# Altium schematic symbol library pira-smart-schlib.SchLib: 10 symbols
Pins are listed as number, name and electrical type; pins without a type are passive.

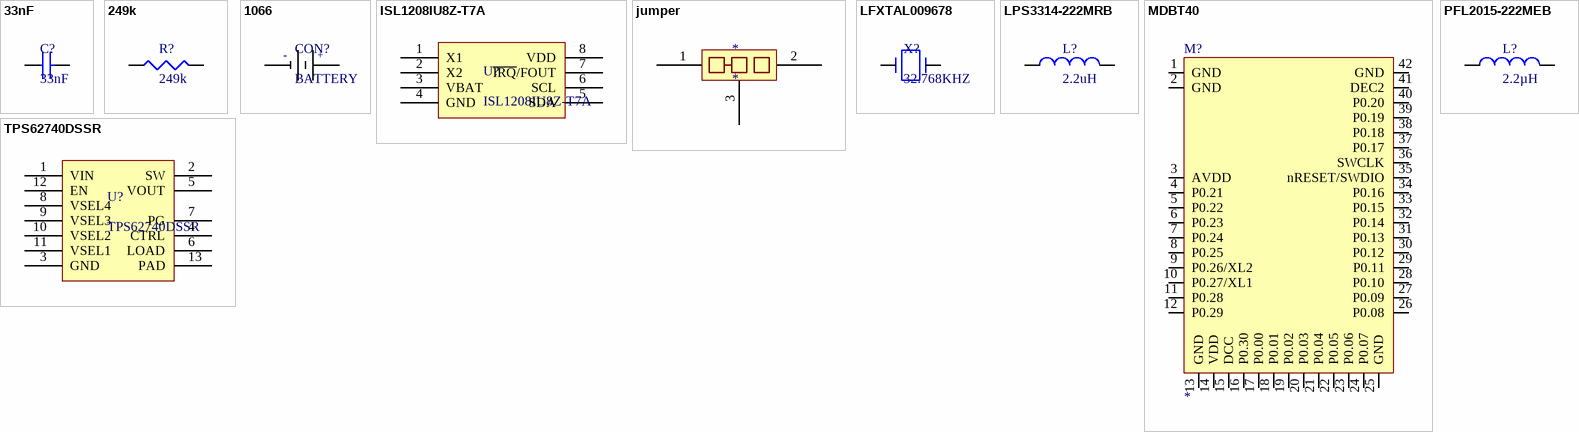
[diagram p0: symbols 33nF to TPS62740DSSR]

## 33nF
designator C?
MULTICOMP   MC0603B333K250CT   Multilayer Ceramic Capacitor, MC Series, 0.033 F,  10%, X7R, 25 V, 0603 [1608 Metric]; SVHC: To Be Advised; Voltage Rating: 25V; Capacitor Terminals: SMD; Supplier 1: Farnell; Manufacturer: Multicomp; Manufacturer Part Number: MC0603B333K250CT; Stock 1: 9606; Pricing 1: 10=0.0225, 100=0.0163, 500=0.0101, 1000=0.0083, 2000=0.007 (EUR); Capacitance: 33nF; Capacitance Tolerance: ± 10%; Dielectric Characteristic: X7R; Capacitor Case Style: 0603 [1608 Metric]; Operating Temperature Min: -55°C; Operating Temperature Max: 125°C; Packaging: Full Reel; MSL: (Not Available); ComponentLink1URL: https://datasheet.ciiva.com/22675/1901289-22675775.pdf; ComponentLink1Description: https://datasheet.ciiva.com/22675/1901289-22675775.pdf
footprint CAP0603
pins: 1, 2

## 249k
designator R?
MULTICOMP         MCWR06X2493FTL             SMD Chip Resistor, Thick Film, 249 kohm, 50 V, 0603 [1608 Metric], 100 mW,  1%, MCWR Series; Voltage Rating: 50V; Power Rating: 100mW; Temperature Coefficient: ± 100ppm/°C; SVHC: No SVHC (17-Dec-2015); Supplier 1: Farnell; Manufacturer: Multicomp; Manufacturer Part Number: MCWR06X2493FTL; Stock 1: 5347; Pricing 1: 10=0.0035, 100=0.0021, 500=0.0015, 1000=0.0012, 2500=0.001 (EUR); Resistance: 249kohm; Resistor Case Style: 0603 [1608 Metric]; Resistance Tolerance: ± 1%; Product Range: MCWR Series; Packaging: Cut Tape; Resistor Element Type: Thick Film; Automotive Qualification Standard: -; MSL: -; ComponentLink1URL: http://www.farnell.com/datasheets/1849611.pdf; ComponentLink1Description: http://www.farnell.com/datasheets/1849611.pdf; Supplier Part Number 1: 2447306
footprint RES0603
pins: 1, 2

## 1066
designator CON?, comment BATTERY
HOLDER BATT COIN COMPACT 20MM; Manufacturer: Keystone Electronics; Manufacturer Part Number: 1066; Body Material: Nylon,Glass; Number of Batteries: 1; Approvals: UL; Supplier 1: Farnell; Stock 1: 17073; Pricing 1: 1=1, 50=0.97, 100=0.947, 500=0.927, 1000=0.847 (EUR); Mount: Through Hole,Holder,PCB; Contact Plating: Tin; Contact Material: Bronze,Copper,Tin; Material: Bronze; Min Operating Temperature: -50°C; Max Operating Temperature: 145°C; Packaging: Bulk; Number of Cells: 1; Package Quantity: 1; Termination: PC Pin; Diameter: 20mm; REACH SVHC: No SVHC; Lead Free: Lead Free; ComponentLink1URL: https://datasheet.ciiva.com/3/1066-3994.pdf; ComponentLink1Description: https://datasheet.ciiva.com/3/1066-3994.pdf; ComponentLink2URL: https://datasheet.ciiva.com/1391/1718229-1391198.pdf; ComponentLink2Description: https://datasheet.ciiva.com/1391/1718229-1391198.pdf; ComponentLink3URL: https://datasheet.ciiva.com/12342/m60p3-4068-12342995.pdf; ComponentLink3Description: https://datasheet.ciiva.com/12342/m60p3-4068-12342995.pdf; ComponentLink4URL: https://datasheet.ciiva.com/18403/70181436-18403177.pdf; ComponentLink4Description: https://datasheet.ciiva.com/18403/70181436-18403177.pdf; ComponentLink5URL: https://datasheet.ciiva.com/22643/1814063-22643020.pdf; ComponentLink5Description: https://datasheet.ciiva.com/22643/1814063-22643020.pdf; ComponentLink6URL: https://datasheet.ciiva.com/16322/m60-2p3-16322780.pdf; ComponentLink6Description: https://datasheet.ciiva.com/16322/m60-2p3-16322780.pdf; Supplier Part Number 1: 2293258
footprint 1066_1066(Primary)
pins: NEG, POS
text: -; +

## ISL1208IU8Z-T7A
designator U?
IC RTC/CALENDAR I2C LP 8MSOP; Manufacturer: Intersil; Max Supply Voltage: 5.5V; Min Supply Voltage: 2.7V; Non-volatile Memory Size: 2B; Interface: I2C,Serial,2-Wire; Logic Function: Clock; Time Format: HH:MM:SS; Date Format: YY-MM-DD-dd; Supplier 1: Farnell; Manufacturer Part Number: ISL1208IU8Z-T7A; Stock 1: 321; Pricing 1: 1=2.63, 10=2.24, 25=2.12, 50=2.01, 100=1.89, 250=1.84, 500=1.65, 1000=1.37 (EUR); Mount: Surface Mount; Case/Package: MSOP; Number of Pins: 8; Min Operating Temperature: -40°C; Max Operating Temperature: 85°C; Packaging: Tape and Reel; Package Quantity: 250; Memory Size: 2B; Radiation Hardening: No; REACH SVHC: Unknown; Lead Free: Lead Free; ComponentLink1URL: https://datasheet.ciiva.com/16293/fn8085-16293145.pdf; ComponentLink1Description: https://datasheet.ciiva.com/16293/fn8085-16293145.pdf; ComponentLink2URL: https://datasheet.ciiva.com/8145/fn8085-8145071.pdf; ComponentLink2Description: https://datasheet.ciiva.com/8145/fn8085-8145071.pdf; ComponentLink3URL: https://datasheet.ciiva.com/6668/fn8085-6668119.pdf; ComponentLink3Description: https://datasheet.ciiva.com/6668/fn8085-6668119.pdf; ComponentLink4URL: https://datasheet.ciiva.com/6668/fn8085-6668117.pdf; ComponentLink4Description: https://datasheet.ciiva.com/6668/fn8085-6668117.pdf; ComponentLink5URL: https://datasheet.ciiva.com/6668/fn8085-6668118.pdf; ComponentLink5Description: https://datasheet.ciiva.com/6668/fn8085-6668118.pdf; Supplier Part Number 1: 2543322
footprint TSOP65P500X110-8N (TSOP, 8-Leads, Body 3.00x3.00mm, Pitch 0.65mm, IPC Medium Density)
pins: 1 X1 (oc), 2 X2 (oc), 3 VBAT (oc), 4 GND (oc), 5 SDA (oc), 6 SCL (oc), 7 ~{IRQ}/FOUT (oc), 8 VDD (oc)

## jumper
designator *
pins: 1 (oc), 2 (oc), 3 (oc)

## LFXTAL009678
designator X?, comment 32.768KHZ
CRYSTAL, 32.768KHZ, 12.5PF, SMD; Manufacturer: IQD; Manufacturer Part Number: LFXTAL009678; Frequency: 32.8kHz; Supplier 1: Farnell; Stock 1: 15609; Pricing 1: 5=0.283, 50=0.203, 250=0.169, 500=0.163, 1500=0.157, 3000=0.152, 15000=0.146 (EUR); Case/Package: 217; Number of Pins: 2; Min Operating Temperature: -40°C; Max Operating Temperature: 85°C; Load Capacitance: 12.5pF; REACH SVHC: No SVHC; ComponentLink1URL: https://datasheet.ciiva.com/46419/1852967-46419749.pdf; ComponentLink1Description: https://datasheet.ciiva.com/46419/1852967-46419749.pdf; Supplier Part Number 1: 2449398
footprint LFXTAL009678
pins: 1, 2

## LPS3314-222MRB
designator L?, comment 2.2uH
COILCRAFT   LPS3314-222MRB   INDUCTOR, SHLD, 2.2UH, 20%, 1.2A, SMD; Core Material: Ferrite; Saturation Current: 1.4A; DC Resistance (DCR): 100mR; Shielding: Shielded; Max DC Current: 1.5A; Self Resonant Frequency: 140MHz; Test Frequency: 100kHz; Supplier 1: Farnell; Manufacturer: Coilcraft; Manufacturer Part Number: LPS3314-222MRB; Stock 1: 608; Pricing 1: 1=0.898, 250=0.706, 500=0.555 (EUR); Weight: 0.001411oz; Min Operating Temperature: -40°C; Max Operating Temperature: 85°C; Inductance Tolerance: 20%; Packaging: Cut Tape; Inductance: 2.2uh; RMS Current (Irms): 1.2A; Termination: SMD/SMT; Tolerance: 20%; Package Quantity: 1; Length: 3mm; Height: 1.4mm; Width: 3mm; REACH SVHC: No SVHC; ComponentLink1URL: https://datasheet.ciiva.com/46438/1805322-46438527.pdf; ComponentLink1Description: https://datasheet.ciiva.com/46438/1805322-46438527.pdf; ComponentLink2URL: https://datasheet.ciiva.com/46384/1805322-46384794.pdf; ComponentLink2Description: https://datasheet.ciiva.com/46384/1805322-46384794.pdf; Supplier Part Number 1: 2408039
footprint LPS3314
pins: 1, 2

## MDBT40
designator M?
MDBT40
footprint PCB_MDBT40_10X18
pins: 1 GND, 2 GND, 3 AVDD, 4 P0.21, 5 P0.22, 6 P0.23, 7 P0.24, 8 P0.25, 9 P0.26/XL2, 10 P0.27/XL1, 11 P0.28, 12 P0.29, 13 GND, 14 VDD, 15 DCC, 16 P0.30, 17 P0.00, 18 P0.01, 19 P0.02, 20 P0.03, 21 P0.04, 22 P0.05, 23 P0.06, 24 P0.07, 25 GND, 26 P0.08, 27 P0.09, 28 P0.10, 29 P0.11, 30 P0.12, 31 P0.13, 32 P0.14, 33 P0.15, 34 P0.16, 35 nRESET/SWDIO, 36 SWCLK, 37 P0.17, 38 P0.18, 39 P0.19, 40 P0.20, 41 DEC2, 42 GND

## PFL2015-222MEB
designator L?, comment 2.2µH
Fixed Inductors PFL2015 Shld Power 2.2 uH 20 % 1 A; Manufacturer: Coilcraft; Manufacturer Part Number: PFL2015-222MEB; SVHC: To Be Advised; Product Range: Coilcraft - PFL2015 Series; Inductance Tolerance: ± 20%; DC Resistance Max: 0.21ohm; DC Current Rating: 1A; Self Resonant Frequency: 100MHz; Inductor Case Style: SMD; Core Material: (Not Applicable); Supplier 1: Farnell; Stock 1: 3300; Pricing 1: 1=0.475, 200=0.383, 500=0.333 (EUR); Inductance: 2.2µH; ComponentLink1URL: https://datasheet.ciiva.com/22701/1681966-22701687.pdf; ComponentLink1Description: https://datasheet.ciiva.com/22701/1681966-22701687.pdf; ComponentLink2URL: https://datasheet.ciiva.com/22679/1681966-22679157.pdf; ComponentLink2Description: https://datasheet.ciiva.com/22679/1681966-22679157.pdf
footprint INDC2214X15N (Chip Inductor, 2-Leads, Body 2.20x1.45mm, IPC Medium Density)
pins: 1, 2

## TPS62740DSSR
designator U?
Voltage Regulators - Switching Regulators 360-nA Iq SD Cnvtr w/ Intg Load Switch; Manufacturer: Texas Instruments; Number of Outputs: 1; Output Voltage: 3.3V; Max Output Current: 300mA; Min Input Voltage: 2.2V; Max Input Voltage: 5.5V; Efficiency: 90%; Switching Frequency: 2MHz; Min Output Voltage: 1.8V; Quiescent Current: 300nA; Supplier 1: Farnell; Manufacturer Part Number: TPS62740DSSR; Stock 1: 2440; Pricing 1: 5=1.44, 50=1.1, 250=1.05, 500=0.707, 1500=0.688 (EUR); Mount: Surface Mount; Number of Pins: 12; Min Operating Temperature: -40°C; Max Operating Temperature: 85°C; Package Quantity: 3000; Packaging: Tape and Reel; Output Current: 300mA; Min Supply Voltage: 2.2V; Operating Supply Current: 300mA; Max Output Voltage: 3.3V; Operating Supply Voltage: 5.5V; Radiation Hardening: No; REACH SVHC: No SVHC; Lead Free: Lead Free; ComponentLink1URL: https://datasheet.ciiva.com/29899/tps62740-29899468.pdf; ComponentLink1Description: https://datasheet.ciiva.com/29899/tps62740-29899468.pdf; ComponentLink2URL: https://datasheet.ciiva.com/29567/tps62740-29567318.pdf; ComponentLink2Description: https://datasheet.ciiva.com/29567/tps62740-29567318.pdf; Supplier Part Number 1: 2781752
footprint SON50P200X265_HS-13N (SON, 12-Leads, Body 3.00x2.00mm, Pitch 0.50mm, Thermal Pad 2.00x0.79mm, IPC Medium Density)
pins: 1 VIN (oc), 2 SW (oc), 3 GND (oc), 4 CTRL (oc), 5 VOUT (oc), 6 LOAD (oc), 7 PG (oc), 8 VSEL4 (oc), 9 VSEL3 (oc), 10 VSEL2 (oc), 11 VSEL1 (oc), 12 EN (oc), 13 PAD (oc)